# EAGLE library part DS1307 (library balmer)
i2c Real-Time Clock
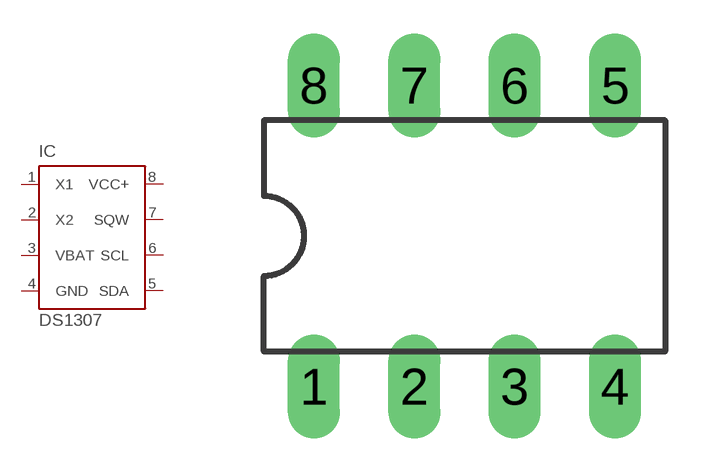
[diagram p6: symbol with the pads of DIL-08; footprint DIL-08]

Designator prefix IC

## DS1307 (MF: Arrow Electronics; MPN: NE555N; OC_FARNELL: 1467742; OC_NEWARK: 89K1486)  [DIL-08]
1  X1  in
2  X2  in
3  VBAT  pwr
4  GND  pwr
5  SDA  in
6  SCL  in
7  SQW  out
8  VCC+  pwr

## Footprint DIL-08 (pad centres in mm)
Dual In Line Package
drill 0.813 long: 1 -3.81,-3.81; 2 -1.27,-3.81; 3 1.27,-3.81; 4 3.81,-3.81; 5 3.81,3.81; 6 1.27,3.81; 7 -1.27,3.81; 8 -3.81,3.81